# Altium footprint library SMD.PcbLib: 86 footprints (part 6 of 6)
Each footprint in its own frame and in the unit in brackets; x right, y up, seen from the top. Pads: shape width x height; smd on the part's side, far side on the other; paste and mask are expansions set on the pad; w line width, h text height; cw(c..) or ccw(c..) is an arc to the next point about the centre after c.
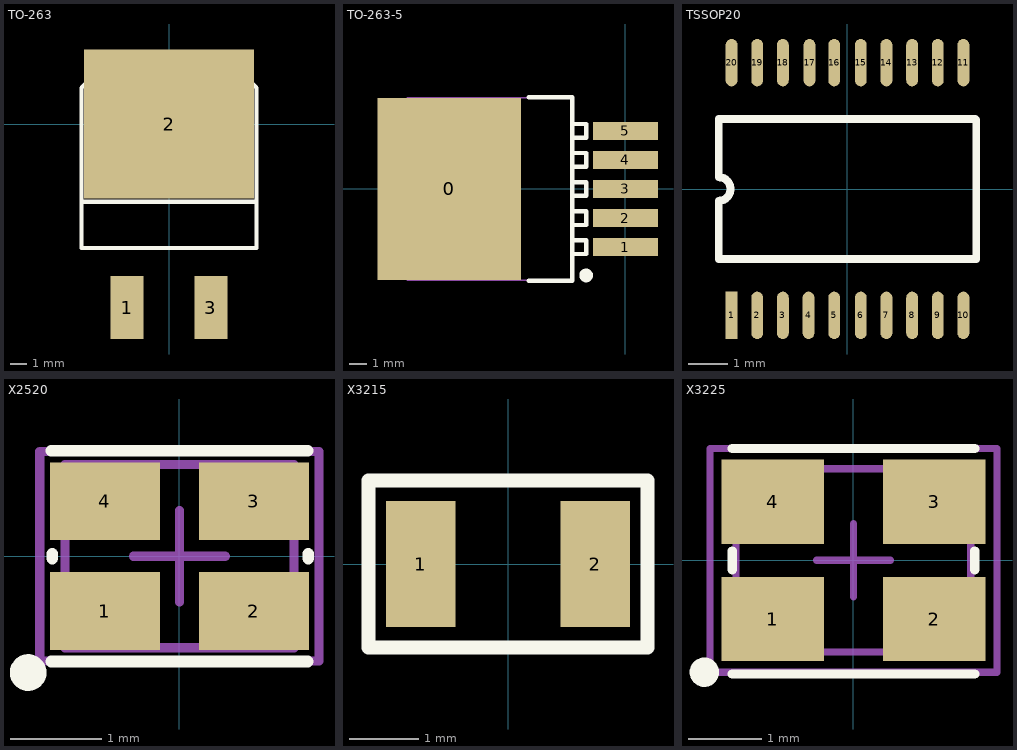
[diagram p5: the footprints below, top view; thin cyan lines are the x and y axes]

## TO-263 [mm]
pads (3):
  rect 2x3.8 smd: 1(-2.54,-11.1) 3(2.54,-11.1)
  rect 10.3x9 smd: 2(0,0)
Top Overlay:
  lines w0.254: -5.3,-4.7 5.3,-4.7 ; -5.3,-7.5 5.3,-7.5 5.3,2.2 4,3.5 -4,3.5 -5.3,2.2 -5.3,-7.5

## TO-263-5 [mm]
pads (6):
  rect 8.4x10.65 smd: 0(-10.3,0)
  rect 3.8x1.05 smd: 1(0,-3.4) 2(0,-1.7) 3(0,0) 4(0,1.7) 5(0,3.4)
Top Overlay:
  circle w0.4: c-2.3,-5.05 r0.2
  lines w0.254: -5.65,-5.35 -3.1,-5.35 -3.1,5.35 -5.65,5.35 ; -3.1,-3 -2.3,-3 -2.3,-3.8 -3,-3.8 ; -3.1,-1.3 -2.3,-1.3 -2.3,-2.1 -3,-2.1 ; -3.1,0.4 -2.3,0.4 -2.3,-0.4 -3,-0.4 ; -3.1,2.1 -2.3,2.1 -2.3,1.3 -3,1.3 ; -3.1,3.8 -2.3,3.8 -2.3,3 -3,3
Mechanical 13:
  lines w0.1: -12.75,-5.325 -12.75,5.325 -3.1,5.325 -3.1,-5.325 -12.75,-5.325

## TSSOP20 [mm]
pads (20):
  rect 0.3x1.2 smd: 1(-2.925,-3.2)
  oval 0.3x1.2 smd: 2(-2.275,-3.2) 3(-1.625,-3.2) 4(-0.975,-3.2) 5(-0.325,-3.2) 6(0.35,-3.2) 7(1,-3.2) 8(1.65,-3.2) 9(2.3,-3.2) 10(2.95,-3.2) 11(2.95,3.2) 12(2.3,3.2) 13(1.65,3.2) 14(1,3.2) 15(0.35,3.2) 16(-0.325,3.2) 17(-0.95,3.2) 18(-1.625,3.2) 19(-2.275,3.2) 20(-2.925,3.2)
Top Overlay:
  lines w0.2: -3.25,-0.31 -3.25,-1.775 3.25,-1.775 ; -3.25,-0.3 ccw(c-3.25,0) -3.25,0.3 -3.25,1.765 ; -3.25,1.775 3.25,1.775 ; 3.275,-1.775 3.275,1.755
3D body "User Library-TSSOP-20-1.step": height 1.2, standoff 0, extent -3.302,-3.275 3.298,3.275

## X2520 [mm] "Quartz Crystal, SM; Body 2.5 x 2.0 mm"
height 1
pads (4):
  rect 1.2x0.85 smd: 1(-0.813,-0.6) 2(0.813,-0.6) 3(0.813,0.6) 4(-0.813,0.6)
Top Overlay:
  circle w0.2: c-1.651,-1.27 r0.1
  lines w0.127: -1.4,-1.15 1.4,-1.15 ; -1.4,1.15 1.4,1.15 ; -1.387,-0.025 -1.387,0.025 ; 1.407,-0.025 1.407,0.025
Mechanical 13:
  lines w0.1: -1.25,-1 -1.25,1 1.25,1 1.25,-1 -1.25,-1
Mechanical 15:
  lines w0.1: -0.5,0 0.5,0 ; 0,-0.5 0,0.5 ; -1.524,-1.143 1.524,-1.143 1.524,1.143 -1.524,1.143 -1.524,-1.143
3D body "User Library-Crystal-SMT-2520.STEP": height 0.79, standoff 0, extent -1.25,-1 1.25,1

## X3215 [mm]
pads (2):
  rect 1x1.8 smd: 1(-1.25,0) 2(1.25,0)
Top Overlay:
  lines w0.2: -2,-1.2 2,-1.2 2,1.2 -2,1.2 -2,-1.2
3D body "User Library-Crystal-CSTCE_V-1.STEP": height 1.02, standoff -0.09, extent -1.6,-0.65 1.6,0.65

## X3225 [mm] "Quartz Crystal, SM; Body 3.2 x 2.5 mm"
height 1
pads (4):
  rect 1.4x1.15 smd: 1(-1.1,-0.8) 2(1.1,-0.8) 3(1.1,0.8) 4(-1.1,0.8)
Top Overlay:
  circle w0.2: c-2.032,-1.524 r0.1
  lines w0.127: -1.651,-1.549 1.651,-1.549 ; -1.651,-0.127 -1.651,0.127 ; -1.651,1.524 1.651,1.524 ; 1.651,-0.127 1.651,0.127
Mechanical 13:
  lines w0.1: -1.6,-1.25 -1.6,1.25 1.6,1.25 1.6,-1.25 -1.6,-1.25
Mechanical 15:
  lines w0.1: -0.5,0 0.5,0 ; 0,-0.5 0,0.5 ; -1.956,-1.524 1.956,-1.524 1.956,1.524 -1.956,1.524 -1.956,-1.524
3D body "User Library-XTAL-SMT-3225.step": height 0.81, standoff 0, extent -1.6,-1.27 1.6,1.23